# EAGLE library part ADM8828 (library Analog Devices)
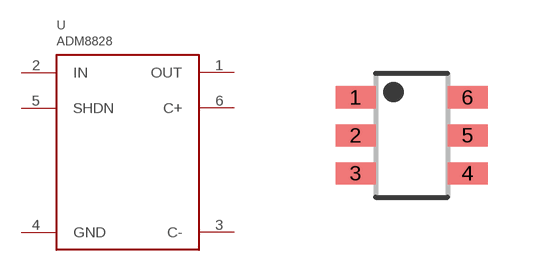
[diagram p12: symbol with the pads of SOT23-6; footprint SOT23-6]

Designator prefix U

## ADM8828  [SOT23-6]
1  OUT
2  IN
3  C-
4  GND
5  SHDN
6  C+

## Footprint SOT23-6 (pad centres in mm)
smd 1 x 0.55: 1 -1.4,0.95; 2 -1.4,0; 3 -1.4,-0.95; 4 1.4,-0.95; 5 1.4,0; 6 1.4,0.95